# Altium footprint library PCB.PcbLib: 16 footprints
Each footprint in its own frame and in the unit in brackets; x right, y up, seen from the top. Pads: shape width x height; smd on the part's side, far side on the other; paste and mask are expansions set on the pad; w line width, h text height; cw(c..) or ccw(c..) is an arc to the next point about the centre after c.
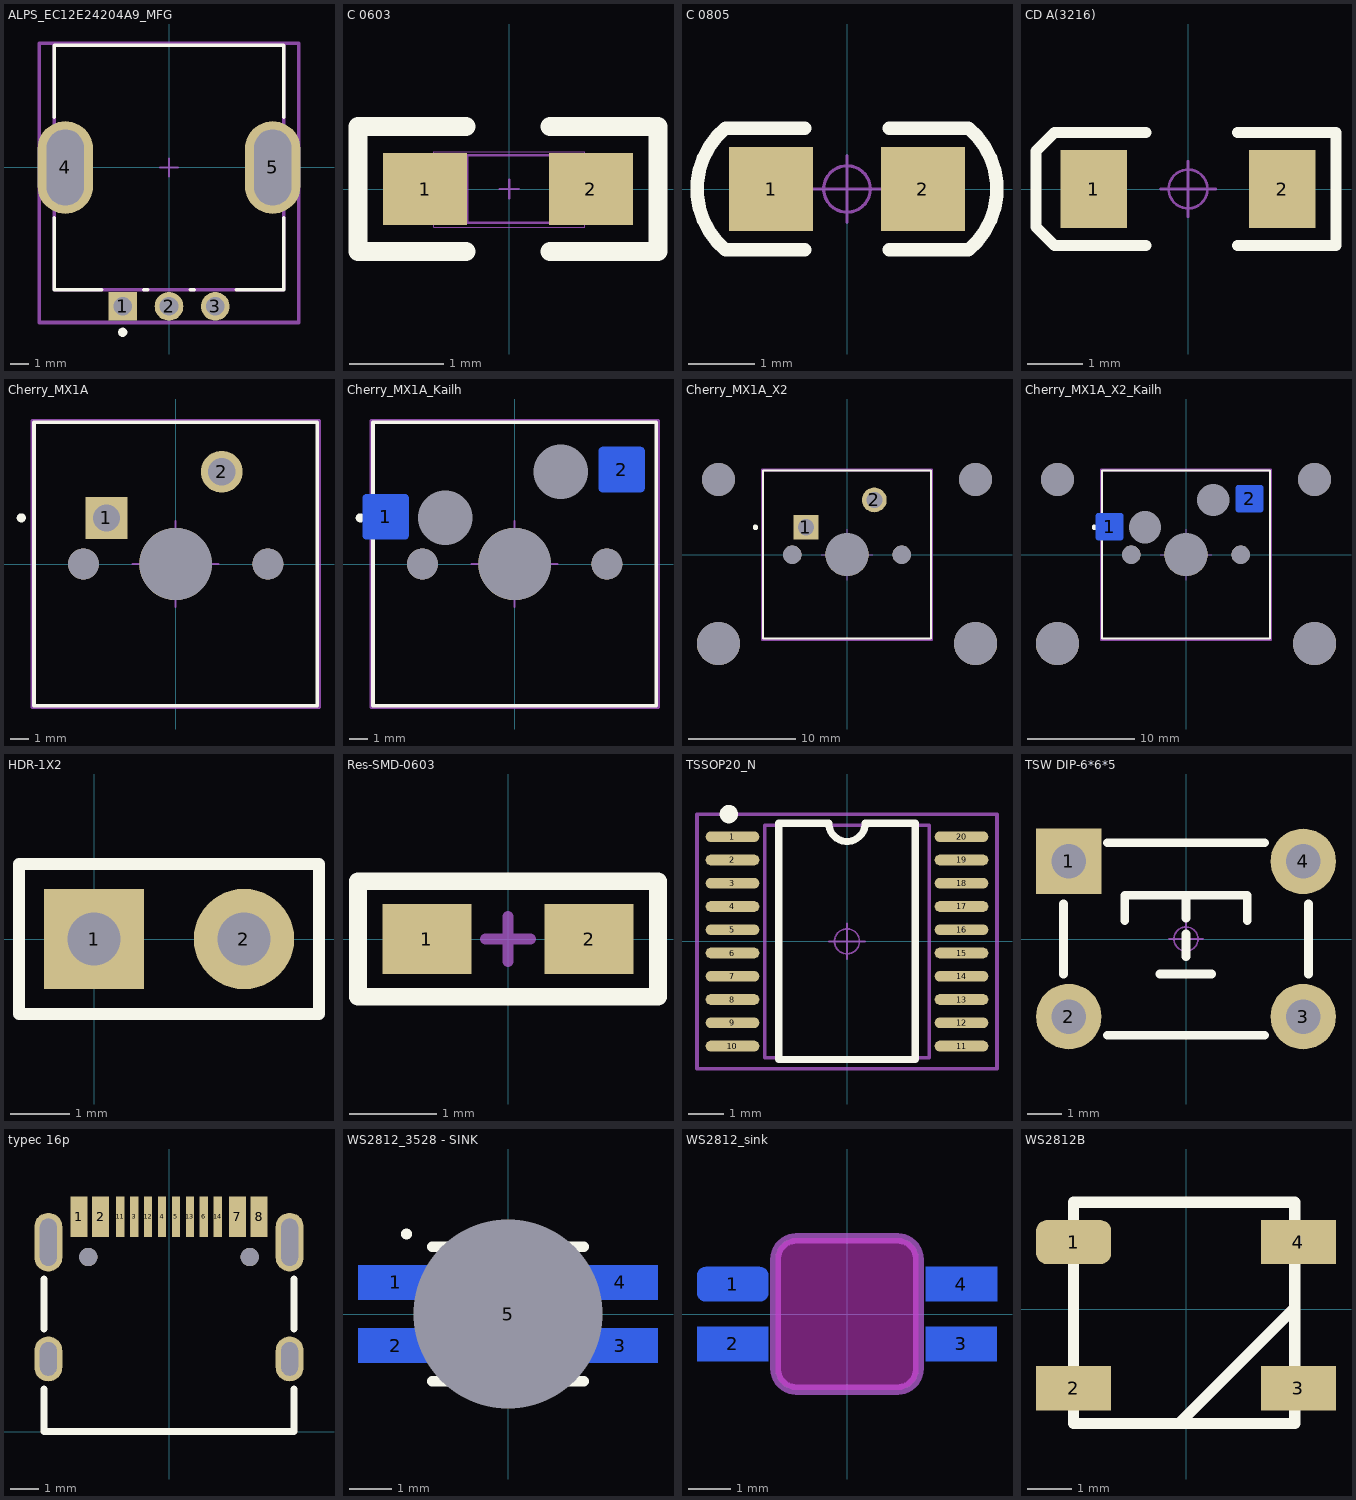
[diagram p0: the footprints below, top view; thin cyan lines are the x and y axes]

## ALPS_EC12E24204A9_MFG [mm]
pads (5):
  rect 1.55x1.55 hole 1 paste-1000 mask+0: 1(-2.5,-7.5)
  round 1.55 hole 1 paste-1000 mask+0: 2(0,-7.5) 3(2.5,-7.5)
  rrect100% 3x5 hole 2 slot 4.1 at 90 deg paste-1000 mask+0: 4(-5.6,0) 5(5.6,0)
Top Overlay:
  circle w0.25: c-2.5,-8.9 r0.125
  lines w0.2: -6.2,-2.725 -6.2,-6.6 -3.65,-6.6 ; -6.2,2.725 -6.2,6.6 6.2,6.6 6.2,2.725 ; -1.35,-6.6 -1.15,-6.6 ; 1.15,-6.6 1.35,-6.6 ; 3.65,-6.6 6.2,-6.6 6.2,-2.725
Mechanical 10:
  lines w0.2: -7,-8.375 7,-8.375 7,6.7 -7,6.7 -7,-8.375
Mechanical 12:
  lines w0.2: -6.2,-6.6 6.2,-6.6 6.2,6.6 -6.2,6.6 -6.2,-6.6
Mechanical 15:
  lines w0.1: -0.5,0 0.5,0 ; 0,-0.5 0,0.5
  lines w0.2: -7,-8.375 7,-8.375 7,6.7 -7,6.7 -7,-8.375
3D body "Enc_ALPS_EC12E24204A9_eec.STEP": height 0.25, standoff 0, extent -7,-8.375 7,6.7

## C 0603 [mil]
pads (2):
  rect 35x30 smd: 1(-35,0) 2(34,0)
Top Overlay:
  lines w8: -18,-26 -63,-26 -63,26 -18,26 ; 17,-26 62,-26 62,26 17,26
Mechanical 13:
  lines w0.39: -31.5,-16 -31.5,15.5 31.5,15.5 31.5,-16 -31.5,-16
Mechanical 15:
  lines w1: -17.5,-14 -17.5,14 ; -3.94,0 3.94,0 ; 0,-3.94 0,3.94 ; 17.5,-14 17.5,14 ; -32,-14 -32,14 32,14 32,-14 -32,-14
3D body "C 0603.STEP": height 31.89, standoff -0.39, extent -31.5,-16.14 31.5,16.14

## C 0805 [mil]
pads (2):
  rect 50x50 smd: 1(-45,0) 2(45,0)
Top Overlay:
  lines w7.87: -25,-36 -72,-36 cw(c-42,0) -72,36 -25,36 ; 25,-36 72,-36 ccw(c42,0) 72,36 25,36
Mechanical 15:
  circle w1.97: c0,0 r13.78
  lines w1.97: -19.68,0 19.68,0 ; 0,-19.68 0,19.68
3D body "C 0805.STEP": height 20.08, standoff -0.39, extent -39.37,-24.02 39.37,24.02

## CD A(3216) [mm]
pads (2):
  rect 1.2x1.4 smd: 1(-1.7,0) 2(1.7,0)
Top Overlay:
  lines w0.2: -0.762,-1.016 -2.413,-1.016 -2.743,-0.686 -2.743,0.686 -2.413,1.016 -0.762,1.016 ; 0.889,-1.016 2.667,-1.016 2.667,1.016 0.889,1.016
Mechanical 15:
  circle w0.05: c0,0 r0.35
  lines w0.05: -0.5,0 0.5,0 ; 0,-0.5 0,0.5
3D body "CD A(3216).STEP": height 1.6, standoff -0.01, extent -1.6,-0.8 1.6,0.8

## Cherry_MX1A [mil]
pads (6):
  rect 90.55x90.55 hole 59.06 paste-39370.1 mask+0: 1(-150,100)
  round 90.55 hole 59.06 paste-39370.1 mask+0: 2(100,200)
  round 67 hole 67 unplated paste-39370.1 mask+0: ""(-200,0) ""(200,0)
  round 3.15 hole 1.69 paste-39370.1 mask+0: ""(0,0)
  round 157 hole 157 unplated paste-39370.1 mask+0: ""(0,0)
Top Overlay:
  circle w9.84: c-334.65,100 r4.92
  lines w7.87: -307.09,-307.09 -307.09,307.09 307.09,307.09 307.09,-307.09 -307.09,-307.09
Mechanical 10:
  lines w7.87: -311.02,-311.02 -311.02,311.02 311.02,311.02 311.02,-311.02 -311.02,-311.02
Mechanical 12:
  lines w5.91: -307.09,-307.09 -307.09,307.09 307.09,307.09 307.09,-307.09 -307.09,-307.09
Mechanical 15:
  lines w3.94: -93.31,0 93.31,0 ; 0,-93.31 0,93.31
  lines w7.87: -311.02,-311.02 -311.02,311.02 311.02,311.02 311.02,-311.02 -311.02,-311.02
3D body "User Library-MX-Blue12.STEP": height 611.42, standoff -120.87, extent -309.06,-305.12 305.11,309.05

## Cherry_MX1A_Kailh [mm]
pads (8):
  rrect20% 2.55x2.5 smd far side paste-1000 mask+0: 1(-7.1,2.6) 2(5.9,5.2)
  round 1.702 hole 1.702 unplated paste-1000 mask+0: ""(-5.08,0) ""(5.08,0)
  round 2.3 hole 3 paste-1000 mask+0: ""(-3.81,2.54) ""(2.54,5.08)
  round 0.08 hole 0.043 paste-1000 mask+0: ""(0,0)
  round 3.988 hole 3.988 unplated paste-1000 mask+0: ""(0,0)
Top Overlay:
  circle w0.25: c-8.5,2.54 r0.125
  lines w0.2: -7.8,-7.8 -7.8,7.8 7.8,7.8 7.8,-7.8 -7.8,-7.8
Bottom Overlay:
  lines w0.254: -6.05,1.15 -6.05,0.9 -3,0.9 -1.1,2.8 4.85,2.8 4.85,3.75 ; -6.05,4.1 -6.05,4.95 -4.2,6.8 4.85,6.8 4.85,6.65
Mechanical 10:
  lines w0.2: -7.9,-7.9 -7.9,7.9 7.9,7.9 7.9,-7.9 -7.9,-7.9
Mechanical 12:
  lines w0.15: -7.8,-7.8 -7.8,7.8 7.8,7.8 7.8,-7.8 -7.8,-7.8
Mechanical 15:
  lines w0.1: -2.37,0 2.37,0 ; 0,-2.37 0,2.37
  lines w0.2: -7.9,-7.9 -7.9,7.9 7.9,7.9 7.9,-7.9 -7.9,-7.9
3D body "Kailh Hotswap MX v22.step": height 1.82, standoff -1.4, extent -7.91,0.95 6.61,6.9
3D body "User Library-MX-Blue12.STEP": height 15.53, standoff -3.07, extent -7.85,-7.75 7.75,7.85

## Cherry_MX1A_X2 [mil]
pads (10):
  rect 90.55x90.55 hole 59.06 paste-39370.1 mask+0: 1(-150,100)
  round 90.55 hole 59.06 paste-39370.1 mask+0: 2(100,200)
  round 157 hole 157 unplated paste-39370.1 mask+0: ""(-470,-325) ""(0,0) ""(470,-325)
  round 120 hole 120 unplated paste-39370.1 mask+0: ""(-470,275) ""(470,275)
  round 67 hole 67 unplated paste-39370.1 mask+0: ""(-200,0) ""(200,0)
  round 3.15 hole 1.69 paste-39370.1 mask+0: ""(0,0)
Top Overlay:
  circle w9.84: c-334.65,100 r4.92
  lines w7.87: -307.09,-307.09 -307.09,307.09 307.09,307.09 307.09,-307.09 -307.09,-307.09
Mechanical 10:
  lines w7.87: -311.02,-311.02 -311.02,311.02 311.02,311.02 311.02,-311.02 -311.02,-311.02
Mechanical 12:
  lines w5.91: -307.09,-307.09 -307.09,307.09 307.09,307.09 307.09,-307.09 -307.09,-307.09
Mechanical 15:
  lines w3.94: -93.31,0 93.31,0 ; 0,-93.31 0,93.31
  lines w7.87: -311.02,-311.02 -311.02,311.02 311.02,311.02 311.02,-311.02 -311.02,-311.02
3D body "Cherry MX Stabilizer2.STEP": height 478.62, standoff -110.24, extent -606.3,-433.07 602.36,322.84
3D body "User Library-MX-Blue12.STEP": height 611.42, standoff -120.87, extent -309.06,-305.12 305.11,309.05

## Cherry_MX1A_X2_Kailh [mil]
pads (12):
  rrect20% 100.39x98.43 smd far side paste-39370.1 mask+0: 1(-279.53,102.36) 2(232.28,204.72)
  round 157 hole 157 unplated paste-39370.1 mask+0: ""(-470,-325) ""(0,0) ""(470,-325)
  round 120 hole 120 unplated paste-39370.1 mask+0: ""(-470,275) ""(470,275)
  round 67 hole 67 unplated paste-39370.1 mask+0: ""(-200,0) ""(200,0)
  round 90.55 hole 118.11 paste-39370.1 mask+0: ""(-150,100) ""(100,200)
  round 3.15 hole 1.69 paste-39370.1 mask+0: ""(0,0)
Top Overlay:
  circle w9.84: c-334.65,100 r4.92
  lines w7.87: -307.09,-307.09 -307.09,307.09 307.09,307.09 307.09,-307.09 -307.09,-307.09
Bottom Overlay:
  lines w10: -238.19,45.28 -238.19,35.43 -118.11,35.43 -43.31,110.24 190.94,110.24 190.94,147.64 ; -238.19,161.42 -238.19,194.88 -165.35,267.72 190.94,267.72 190.94,261.81
Mechanical 10:
  lines w7.87: -311.02,-311.02 -311.02,311.02 311.02,311.02 311.02,-311.02 -311.02,-311.02
Mechanical 12:
  lines w5.91: -307.09,-307.09 -307.09,307.09 307.09,307.09 307.09,-307.09 -307.09,-307.09
Mechanical 15:
  lines w3.94: -93.31,0 93.31,0 ; 0,-93.31 0,93.31
  lines w7.87: -311.02,-311.02 -311.02,311.02 311.02,311.02 311.02,-311.02 -311.02,-311.02
3D body "Kailh Hotswap MX v22.step": height 71.65, standoff -55.12, extent -311.42,37.4 260.23,271.65
3D body "Cherry MX Stabilizer2.STEP": height 478.62, standoff -110.24, extent -606.3,-433.07 602.36,322.84
3D body "User Library-MX-Blue12.STEP": height 611.42, standoff -120.87, extent -309.06,-305.12 305.11,309.05

## HDR-1X2 [mm]
pads (2):
  rect 1.7x1.7 hole 0.9: 1(0,0)
  round 1.7 hole 0.9: 2(2.54,0)
Top Overlay:
  lines w0.2: -1.27,-1.27 -1.27,1.27 3.81,1.27 3.81,-1.27 -1.27,-1.27

## Res-SMD-0603 [mil]
pads (2):
  rect 40x31.5 smd: 1(-36.5,0) 2(36.5,0)
Top Overlay:
  lines w8: -67.5,-26 -67.5,26 67.5,26 67.5,-26 -67.5,-26
Mechanical 15:
  lines w5: -10,0 10,0 ; 0,-10 0,10
3D body "R 0603.STEP": height 15.79, standoff -0.13, extent -31.5,-15.75 31.5,15.75

## TSSOP20_N [mm]
pads (20):
  oval 1.5x0.3 smd: 1(-3.2,2.925) 2(-3.2,2.275) 3(-3.2,1.625) 4(-3.2,0.975) 5(-3.2,0.325) 6(-3.2,-0.325) 7(-3.2,-0.975) 8(-3.2,-1.625) 9(-3.2,-2.275) 10(-3.2,-2.925) 11(3.2,-2.925) 12(3.2,-2.275) 13(3.2,-1.625) 14(3.2,-0.975) 15(3.2,-0.325) 16(3.2,0.325) 17(3.2,0.975) 18(3.2,1.625) 19(3.2,2.275) 20(3.2,2.925)
Top Overlay:
  circle w0.254: c-3.302,3.556 r0.13
  lines w0.2: -1.905,-3.3 -1.905,3.299 -0.508,3.302 ccw(c0,3.3) 0.508,3.3 1.905,3.3 1.905,-3.3 -1.905,-3.3
Mechanical 13:
  lines w0.1: -2.3,-3.25 -2.3,3.25 2.3,3.25 2.3,-3.25 -2.3,-3.25
Mechanical 15:
  circle w0.05: c0,0 r0.35
  lines w0.05: -0.5,0 0.5,0 ; 0,-0.5 0,0.5
  lines w0.1: -4.191,-3.556 4.191,-3.556 4.191,3.556 -4.191,3.556 -4.191,-3.556
3D body "TSSOP20.STEP": height 1.03, standoff -0.02, extent -3.202,-3.25 3.202,3.25

## TSW DIP-6*6*5 [mm]
pads (4):
  rect 1.9x1.9 hole 1: 1(-3.4,2.25)
  round 1.9 hole 1: 2(-3.4,-2.25) 3(3.4,-2.25) 4(3.4,2.25)
Top Overlay:
  lines w0.254: -3.556,-1.016 -3.556,1.016 ; -2.286,-2.794 2.286,-2.794 ; -2.286,2.794 2.286,2.794 ; -1.778,0.533 -1.778,1.27 1.778,1.27 1.778,0.533 ; -0.762,-1.016 0.737,-1.016 ; 0,-0.508 0,0.152 ; 0,0.61 0,1.27 ; 3.556,-1.016 3.556,1.016
Bottom Overlay:
  lines w0.254: -2.286,-2.286 2.286,-2.286 ; -2.286,2.286 2.286,2.286
Mechanical 15:
  circle w0.05: c0,0 r0.35
  lines w0.05: -0.5,0 0.5,0 ; 0,-0.5 0,0.5
3D body "TSW DIP-6x6x5.STEP": height 4.95, standoff -3.45, extent -4.106,-3 4.106,3

## typec 16p [mm]
pads (18):
  rect 0.6x1.45 smd: 1(-3.225,7.695) 2(-2.45,7.695) 7(2.45,7.695) 8(3.225,7.695)
  rect 0.3x1.45 smd: 3(-1.25,7.695) 4(-0.25,7.695) 5(0.25,7.695) 6(1.25,7.695) 11(-1.75,7.695) 12(-0.75,7.695) 13(0.75,7.695) 14(1.75,7.695)
  oval 1x1.6 hole 0.6 slot 1.2 at 90 deg: ""(-4.32,2.6) ""(4.32,2.6)
  oval 1x2.1 hole 0.6 slot 1.7 at 90 deg: ""(-4.32,6.78) ""(4.32,6.78)
  round 0.65 hole 0.65 unplated: ""(-2.89,6.25) ""(2.89,6.25)
Top Overlay:
  lines w0.254: -4.47,1.524 -4.47,0 4.47,0 4.47,1.524 ; -4.47,3.683 -4.47,5.461 ; 4.47,3.683 4.47,5.461
3D body "HRO_TYPE-C-31-M-12.step": height 3.21, standoff -0.99, extent -4.46,0 4.49,7.9

## WS2812_3528 - SINK [mm]
pads (5):
  rect 1.8x0.82 smd far side: 1(-2.667,0.75) 2(-2.667,-0.75) 3(2.667,-0.75) 4(2.667,0.75)
  oval 1x2.7 hole 4.5 unplated: 5(0,0)
Top Overlay:
  lines w0.254: -2.413,1.893 -2.413,1.905 ; -1.8,-1.6 1.8,-1.6 ; -1.8,1.6 1.8,1.6

## WS2812_sink [mm]
pads (4):
  rrect50% 1.7x0.82 smd far side: 1(-2.72,0.71)
  rect 1.7x0.82 smd far side: 2(-2.72,-0.71) 3(2.72,-0.71) 4(2.72,0.71)
Bottom Overlay:
  circle w0.254: c-2.667,1.651 r0.18
  lines w0.254: -1.886,-1.519 ccw(c-1.198,-1.342) -1.27,-2.05 1.27,-2.05 ccw(c1.198,-1.342) 1.886,-1.519 ; -1.886,1.519 cw(c-1.198,1.342) -1.27,2.05 1.27,2.05 cw(c1.198,1.342) 1.886,1.519 ; -1.6,-1.4 -1.6,1.4 1.6,1.4 1.6,-1.4 -1.6,-1.4
Keep-Out Layer:
  board cut-out: -1.7,-1.3 -1.7,1.3 -1.7,1.399 -1.624,1.583 -1.483,1.724 -1.299,1.8 -1.2,1.8 1.2,1.8 1.299,1.8 1.483,1.724 1.624,1.583 1.7,1.399 1.7,1.3 1.7,-1.3 1.7,-1.399 1.624,-1.583 1.483,-1.724 1.299,-1.8 1.2,-1.8 -1.2,-1.8 -1.299,-1.8 -1.483,-1.724 -1.624,-1.583 -1.7,-1.399
Mechanical 1:
  lines w0.254: -1.7,-1.3 ccw(c-1.2,-1.3) -1.2,-1.8 1.2,-1.8 ccw(c1.2,-1.3) 1.7,-1.3 1.7,1.3 ccw(c1.2,1.3) 1.2,1.8 -1.2,1.8 ccw(c-1.2,1.3) -1.7,1.3 -1.7,-1.3

## WS2812B [mm]
pads (4):
  rrect50% 1.7x1 smd: 1(-2.54,1.524)
  rect 1.7x1 smd: 2(-2.54,-1.778) 3(2.54,-1.778) 4(2.54,1.524)
Top Overlay:
  lines w0.254: -0.098,-2.518 2.44,0.019 ; -2.54,-2.576 -2.54,2.424 2.46,2.424 2.46,-2.576 -2.54,-2.576
3D body "User Library-ws2812B-1.STEP": height 1.54, standoff -0.03, extent -2.7,-2.65 2.7,2.35